# Altium footprint library Imported from KiCad.PcbLib: 1 footprints
Each footprint in its own frame and in the unit in brackets; x right, y up, seen from the top. Pads: shape width x height; smd on the part's side, far side on the other; paste and mask are expansions set on the pad; w line width, h text height; cw(c..) or ccw(c..) is an arc to the next point about the centre after c.
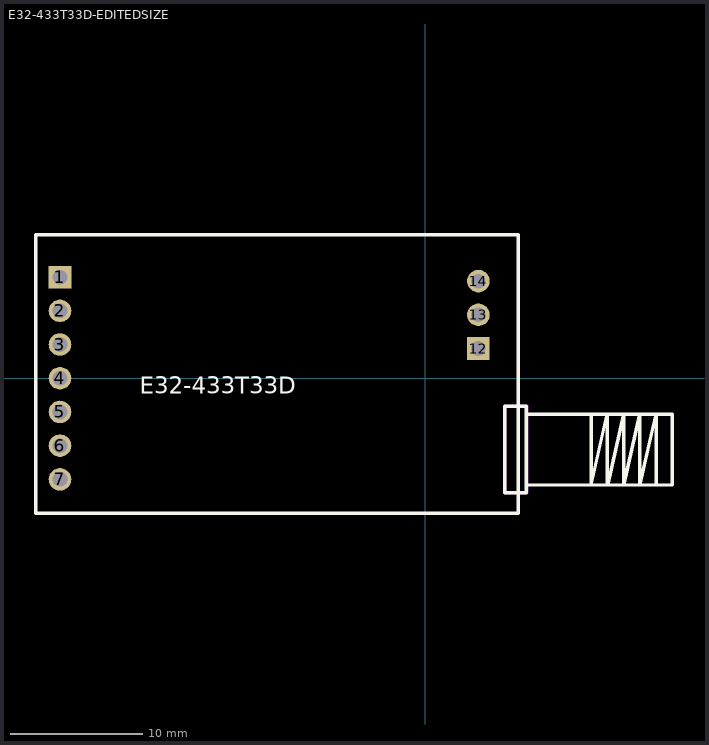
[diagram p0: the footprint, top view; thin cyan lines are the x and y axes]

## E32-433T33D-EDITEDSIZE [mm]
pads (10):
  rect 1.7x1.7 hole 1.1: 1(-27.52,7.62) 12(4,2.24)
  round 1.7 hole 1.1: 2(-27.52,5.08) 3(-27.52,2.54) 4(-27.52,0) 5(-27.52,-2.54) 6(-27.52,-5.08) 7(-27.52,-7.62) 13(4,4.78) 14(4,7.32)
F.SilkS:
  lines w0.254: 7.6,-8.04 18.6,-8.04 18.6,-2.7 7.6,-2.7 ; 12.483,-8.04 13.697,-2.7 ; 12.509,-8.04 12.509,-2.7 ; 13.706,-8.04 13.706,-2.7 ; 13.736,-8.04 14.95,-2.7 ; 14.941,-8.04 16.154,-2.7 ; 14.959,-8.04 14.959,-2.7 ; 16.164,-2.7 16.164,-8.04 17.377,-2.7 ; 17.387,-8.04 17.387,-2.7 ; -29.34,-10.18 -29.34,10.82 7,10.82 7,-10.18 -29.34,-10.18 ; 6,-8.62 6,-2.12 7.6,-2.12 7.6,-2.195 7.6,-8.62 6,-8.62
  text "E32-433T33D" at -21.5,-1.638 h2.18
F.Fab:
  text "'.Designator'" at 6.061,-3.098 h1
Eco2.User:
  region: -27.2,7.3 -27.84,7.3 -27.84,7.94 -27.2,7.94
  region: -27.2,4.76 -27.84,4.76 -27.84,5.4 -27.2,5.4
  region: -27.2,2.22 -27.84,2.22 -27.84,2.86 -27.2,2.86
  region: -27.2,-0.32 -27.84,-0.32 -27.84,0.32 -27.2,0.32
  region: -27.2,-2.86 -27.84,-2.86 -27.84,-2.22 -27.2,-2.22
  region: -27.2,-5.4 -27.84,-5.4 -27.84,-4.76 -27.2,-4.76
  region: -27.2,-7.94 -27.84,-7.94 -27.84,-7.3 -27.2,-7.3
  region: 4.32,7 3.68,7 3.68,7.64 4.32,7.64
  region: 4.32,4.46 3.68,4.46 3.68,5.1 4.32,5.1
  region: 4.32,1.92 3.68,1.92 3.68,2.56 4.32,2.56
  lines w0.254: 5.99,-8.62 5.99,-2.12 7.651,-2.12 7.651,-2.72 7.651,-8.02 7.651,-8.62 5.99,-8.62